# Altium integrated library Motorola Logic Multiplexer.IntLib: 115 symbols (part 1 of 3)
Pins are listed as number, name and electrical type; pins without a type are passive.

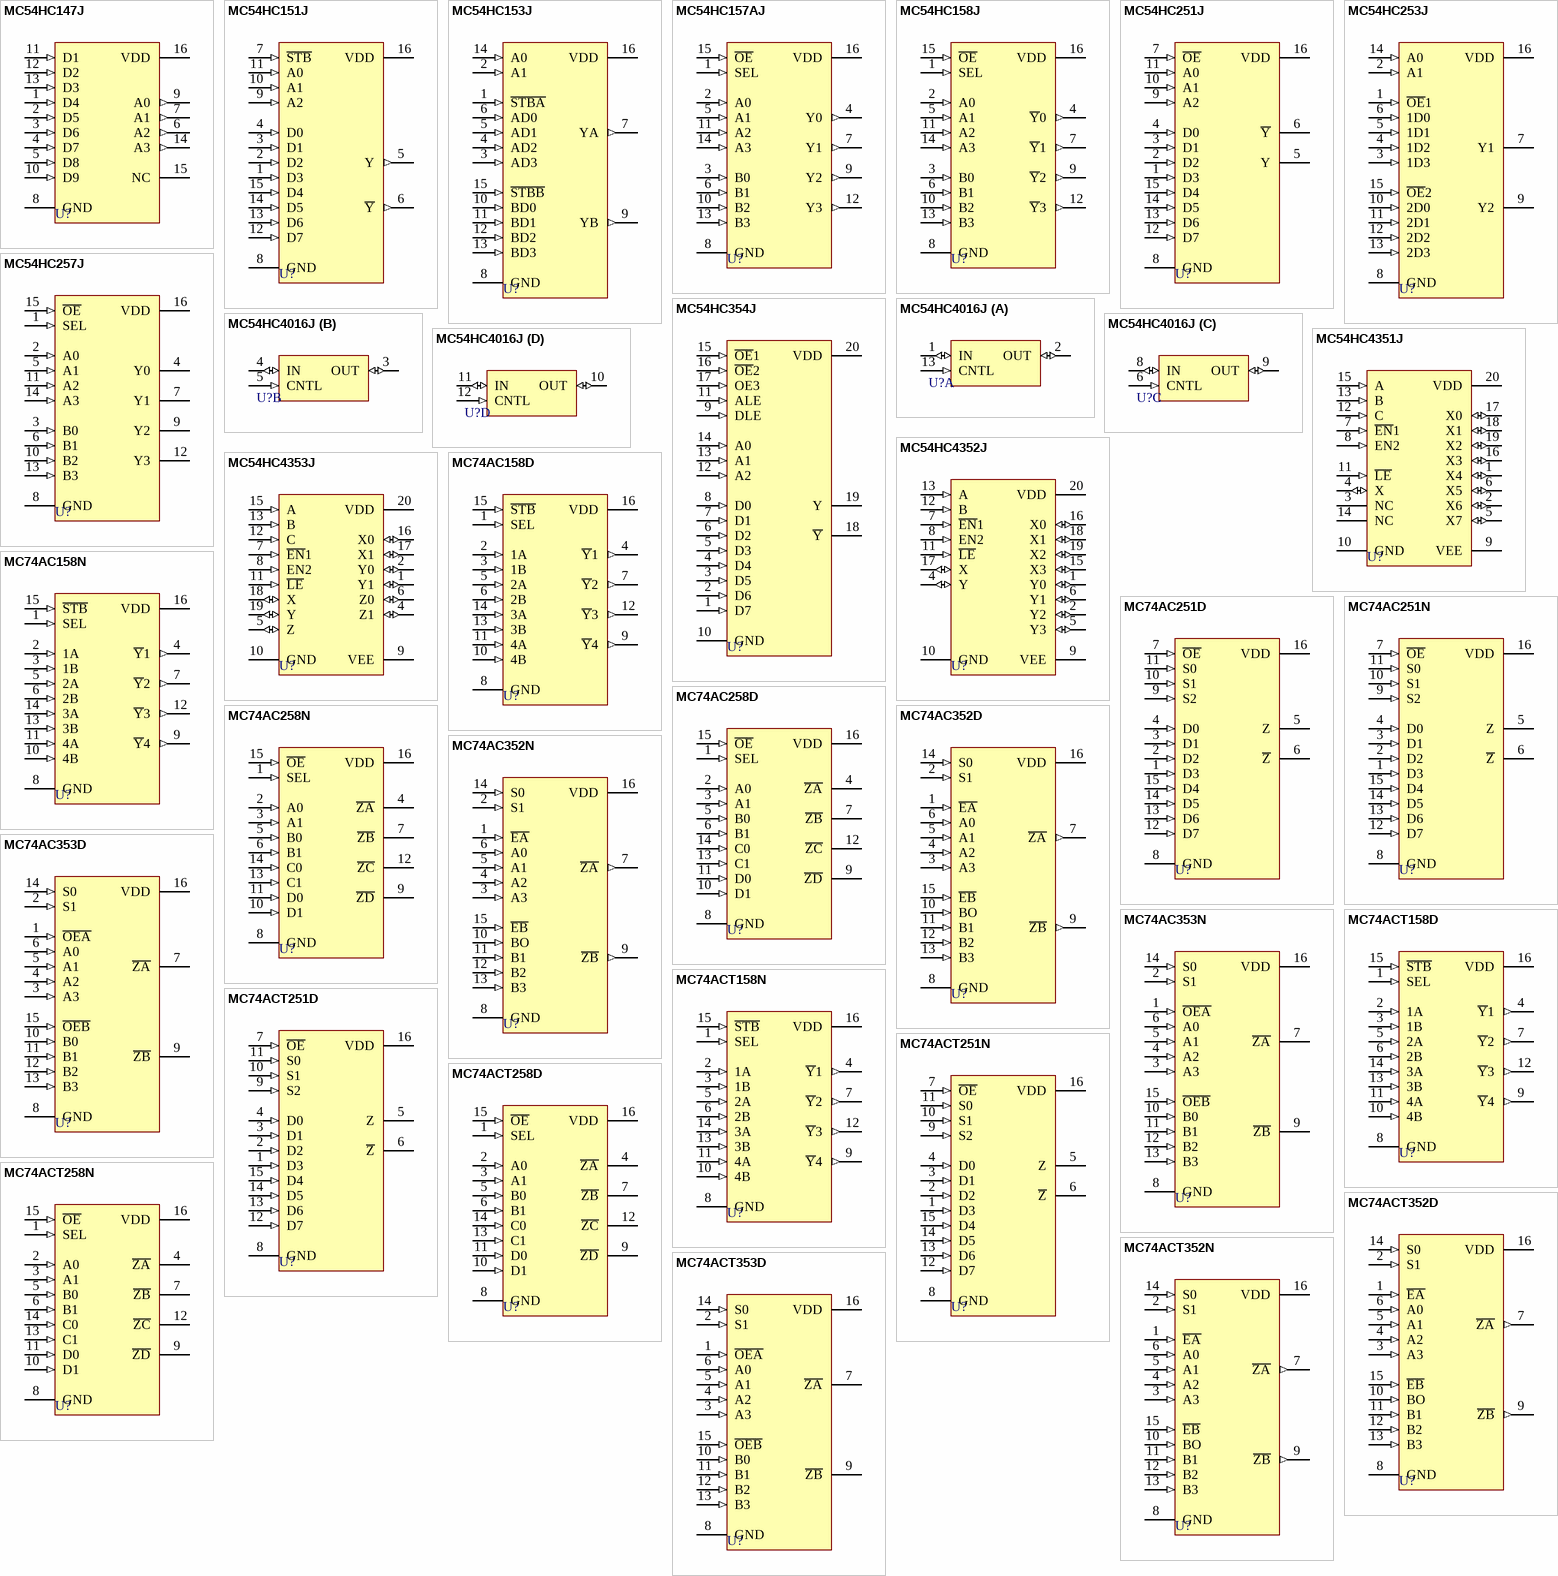
[diagram p0: symbols MC54HC147J to MC74ACT353D]

## MC54HC147J
designator U?
Decimal-to-BCD Encoder; Published: 17-Jul-2002; LatestRevisionDate: 06-Jun-2005; LatestRevisionNote: Stylized 3D Model Added; DatasheetVersion: 1989; PackageReference: 620-09; Publisher: Altium Limited; PackageDescription: DIP; 16 Leads; Row Spacing 7.62 mm; Pitch 2.54 mm; Code_JEDEC: MS-001-BB; ComponentLink1Description: Manufacturer Link; ComponentLink1URL: http://www.onsemi.com/site/products/parametrics/0,4446,419,00.html; ComponentLink2Description: Ibis Model; ComponentLink2URL: http://www.onsemi.com/pub/Collateral/MC54HC147J.IBS
footprint 620-09 (DIP; 16 Leads; Row Spacing 7.62 mm; Pitch 2.54 mm)
3D model 620-09 (DIP; 16 Leads; Row Spacing 7.62 mm; Pitch 2.54 mm)
signal-integrity model MC54HC147J
pins: 1 D4 (in), 2 D5 (in), 3 D6 (in), 4 D7 (in), 5 D8 (in), 6 A2 (out), 7 A1 (out), 8 GND (power), 9 A0 (out), 10 D9 (in), 11 D1 (in), 12 D2 (in), 13 D3 (in), 14 A3 (out), 15 NC, 16 VDD (power)

## MC54HC151J
designator U?
8-Input Data Selector/Multiplexer; Published: 17-Jul-2002; LatestRevisionDate: 06-Jun-2005; LatestRevisionNote: Stylized 3D Model Added; DatasheetVersion: 1989; PackageReference: 620-09; Publisher: Altium Limited; PackageDescription: DIP; 16 Leads; Row Spacing 7.62 mm; Pitch 2.54 mm; Code_JEDEC: MS-001-BB; ComponentLink1Description: Manufacturer Link; ComponentLink1URL: http://www.onsemi.com/site/products/parametrics/0,4446,419,00.html; ComponentLink2Description: Ibis Model; ComponentLink2URL: http://www.onsemi.com/pub/Collateral/MC54HC151J.IBS
footprint 620-09 (DIP; 16 Leads; Row Spacing 7.62 mm; Pitch 2.54 mm)
3D model 620-09 (DIP; 16 Leads; Row Spacing 7.62 mm; Pitch 2.54 mm)
signal-integrity model MC54HC151J
pins: 1 D3 (in), 2 D2 (in), 3 D1 (in), 4 D0 (in), 5 Y (out), 6 ~{Y} (out), 7 ~{STB} (in), 8 GND (power), 9 A2 (in), 10 A1 (in), 11 A0 (in), 12 D7 (in), 13 D6 (in), 14 D5 (in), 15 D4 (in), 16 VDD (power)

## MC54HC153J
designator U?
Dual 4-Input Data Selector/Multiplexer; Published: 17-Jul-2002; LatestRevisionDate: 06-Jun-2005; LatestRevisionNote: Stylized 3D Model Added; DatasheetVersion: 1989; PackageReference: 620-09; Publisher: Altium Limited; PackageDescription: DIP; 16 Leads; Row Spacing 7.62 mm; Pitch 2.54 mm; Code_JEDEC: MS-001-BB; ComponentLink1Description: Manufacturer Link; ComponentLink1URL: http://www.onsemi.com/site/products/parametrics/0,4446,419,00.html; ComponentLink2Description: Ibis Model; ComponentLink2URL: http://www.onsemi.com/pub/Collateral/MC54HC153J.IBS
footprint 620-09 (DIP; 16 Leads; Row Spacing 7.62 mm; Pitch 2.54 mm)
3D model 620-09 (DIP; 16 Leads; Row Spacing 7.62 mm; Pitch 2.54 mm)
signal-integrity model MC54HC153J
pins: 1 ~{STBA} (in), 2 A1 (in), 3 AD3 (in), 4 AD2 (in), 5 AD1 (in), 6 AD0 (in), 7 YA (out), 8 GND (power), 9 YB (out), 10 BD0 (in), 11 BD1 (in), 12 BD2 (in), 13 BD3 (in), 14 A0 (in), 15 ~{STBB} (in), 16 VDD (power)

## MC54HC157AJ
designator U?
Quad 2-Input Data Selector/Multiplexer; Published: 17-Jul-2002; LatestRevisionDate: 06-Jun-2005; LatestRevisionNote: Stylized 3D Model Added; DatasheetVersion: 1989; PackageReference: 620-09; Publisher: Altium Limited; PackageDescription: DIP; 16 Leads; Row Spacing 7.62 mm; Pitch 2.54 mm; Code_JEDEC: MS-001-BB; ComponentLink1Description: Manufacturer Link; ComponentLink1URL: http://www.onsemi.com/site/products/parametrics/0,4446,419,00.html; ComponentLink2Description: Ibis Model; ComponentLink2URL: http://www.onsemi.com/pub/Collateral/MC54HC157AJ.IBS
footprint 620-09 (DIP; 16 Leads; Row Spacing 7.62 mm; Pitch 2.54 mm)
3D model 620-09 (DIP; 16 Leads; Row Spacing 7.62 mm; Pitch 2.54 mm)
signal-integrity model MC54HC157AJ
pins: 1 SEL (in), 2 A0 (in), 3 B0 (in), 4 Y0 (out), 5 A1 (in), 6 B1 (in), 7 Y1 (out), 8 GND (power), 9 Y2 (out), 10 B2 (in), 11 A2 (in), 12 Y3 (out), 13 B3 (in), 14 A3 (in), 15 ~{OE} (in), 16 VDD (power)

## MC54HC158J
designator U?
Quad 2-Input Inverting Data Selector/Multiplexer; Published: 17-Jul-2002; LatestRevisionDate: 06-Jun-2005; LatestRevisionNote: Stylized 3D Model Added; DatasheetVersion: 1989; PackageReference: 620-09; Publisher: Altium Limited; PackageDescription: DIP; 16 Leads; Row Spacing 7.62 mm; Pitch 2.54 mm; Code_JEDEC: MS-001-BB; ComponentLink1Description: Manufacturer Link; ComponentLink1URL: http://www.onsemi.com/site/products/parametrics/0,4446,419,00.html; ComponentLink2Description: Ibis Model; ComponentLink2URL: http://www.onsemi.com/pub/Collateral/MC54HC158J.IBS
footprint 620-09 (DIP; 16 Leads; Row Spacing 7.62 mm; Pitch 2.54 mm)
3D model 620-09 (DIP; 16 Leads; Row Spacing 7.62 mm; Pitch 2.54 mm)
signal-integrity model MC54HC158J
pins: 1 SEL (in), 2 A0 (in), 3 B0 (in), 4 ~{Y}0 (out), 5 A1 (in), 6 B1 (in), 7 ~{Y}1 (out), 8 GND (power), 9 ~{Y}2 (out), 10 B2 (in), 11 A2 (in), 12 ~{Y}3 (out), 13 B3 (in), 14 A3 (in), 15 ~{OE} (in), 16 VDD (power)

## MC54HC251J
designator U?
8-Input Data Selector/Multiplexer with 3-State Outputs; Published: 17-Jul-2002; LatestRevisionDate: 06-Jun-2005; LatestRevisionNote: Stylized 3D Model Added; DatasheetVersion: 1989; PackageReference: 620-09; Publisher: Altium Limited; PackageDescription: DIP; 16 Leads; Row Spacing 7.62 mm; Pitch 2.54 mm; Code_JEDEC: MS-001-BB; ComponentLink1Description: Manufacturer Link; ComponentLink1URL: http://www.onsemi.com/site/products/parametrics/0,4446,419,00.html
footprint 620-09 (DIP; 16 Leads; Row Spacing 7.62 mm; Pitch 2.54 mm)
3D model 620-09 (DIP; 16 Leads; Row Spacing 7.62 mm; Pitch 2.54 mm)
signal-integrity model MC54HC251J
pins: 1 D3 (in), 2 D2 (in), 3 D1 (in), 4 D0 (in), 5 Y (hiz), 6 ~{Y} (hiz), 7 ~{OE} (in), 8 GND (power), 9 A2 (in), 10 A1 (in), 11 A0 (in), 12 D7 (in), 13 D6 (in), 14 D5 (in), 15 D4 (in), 16 VDD (power)

## MC54HC253J
designator U?
Dual 4-Input Data Selector/Multiplexer with 3-State Outputs; Published: 17-Jul-2002; LatestRevisionDate: 06-Jun-2005; LatestRevisionNote: Stylized 3D Model Added; DatasheetVersion: 1989; PackageReference: 620-09; Publisher: Altium Limited; PackageDescription: DIP; 16 Leads; Row Spacing 7.62 mm; Pitch 2.54 mm; Code_JEDEC: MS-001-BB; ComponentLink1Description: Manufacturer Link; ComponentLink1URL: http://www.onsemi.com/site/products/parametrics/0,4446,419,00.html; ComponentLink2Description: Ibis Model; ComponentLink2URL: http://www.onsemi.com/pub/Collateral/MC14519BCL.IBS
footprint 620-09 (DIP; 16 Leads; Row Spacing 7.62 mm; Pitch 2.54 mm)
3D model 620-09 (DIP; 16 Leads; Row Spacing 7.62 mm; Pitch 2.54 mm)
signal-integrity model MC54HC253J
pins: 1 ~{OE}1 (in), 2 A1 (in), 3 1D3 (in), 4 1D2 (in), 5 1D1 (in), 6 1D0 (in), 7 Y1 (hiz), 8 GND (power), 9 Y2 (hiz), 10 2D0 (in), 11 2D1 (in), 12 2D2 (in), 13 2D3 (in), 14 A0 (in), 15 ~{OE}2 (in), 16 VDD (power)

## MC54HC257J
designator U?
Quad 2-Input Data Selector/Multiplexer with 3-State Outputs; Published: 17-Jul-2002; LatestRevisionDate: 06-Jun-2005; LatestRevisionNote: Stylized 3D Model Added; DatasheetVersion: 1989; PackageReference: 620-09; Publisher: Altium Limited; PackageDescription: DIP; 16 Leads; Row Spacing 7.62 mm; Pitch 2.54 mm; Code_JEDEC: MS-001-BB; ComponentLink1Description: Manufacturer Link; ComponentLink1URL: http://www.onsemi.com/site/products/parametrics/0,4446,419,00.html
footprint 620-09 (DIP; 16 Leads; Row Spacing 7.62 mm; Pitch 2.54 mm)
3D model 620-09 (DIP; 16 Leads; Row Spacing 7.62 mm; Pitch 2.54 mm)
signal-integrity model MC54HC257J
pins: 1 SEL (in), 2 A0 (in), 3 B0 (in), 4 Y0 (hiz), 5 A1 (in), 6 B1 (in), 7 Y1 (hiz), 8 GND (power), 9 Y2 (hiz), 10 B2 (in), 11 A2 (in), 12 Y3 (hiz), 13 B3 (in), 14 A3 (in), 15 ~{OE} (in), 16 VDD (power)

## MC54HC354J
designator U?
8-Input Data Selector/Multiplexer with Data/Address Latches and 3-State Outputs; Published: 17-Jul-2002; LatestRevisionDate: 06-Jun-2005; LatestRevisionNote: Stylized 3D Model Added; DatasheetVersion: 1989; PackageReference: 732-03; Publisher: Altium Limited; PackageDescription: DIP; 20 Leads; Row Spacing 7.62 mm; Pitch 2.54 mm; Code_JEDEC: MS-015-AE; ComponentLink1Description: Manufacturer Link; ComponentLink1URL: http://www.onsemi.com/site/products/parametrics/0,4446,419,00.html; ComponentLink2Description: Ibis Model; ComponentLink2URL: http://www.onsemi.com/pub/Collateral/MC54HC354J.IBS
footprint 732-03 (DIP; 20 Leads; Row Spacing 7.62 mm; Pitch 2.54 mm)
3D model 732-03 (DIP; 20 Leads; Row Spacing 7.62 mm; Pitch 2.54 mm)
signal-integrity model MC54HC354J
pins: 1 D7 (in), 2 D6 (in), 3 D5 (in), 4 D4 (in), 5 D3 (in), 6 D2 (in), 7 D1 (in), 8 D0 (in), 9 DLE (in), 10 GND (power), 11 ALE (in), 12 A2 (in), 13 A1 (in), 14 A0 (in), 15 ~{OE}1 (in), 16 ~{OE}2 (in), 17 OE3 (in), 18 ~{Y} (hiz), 19 Y (hiz), 20 VDD (power)

## MC54HC4016J
designator U?
Quad Analog Switch/Multiplexer/Demultiplexer; Published: 17-Jul-2002; LatestRevisionDate: 06-Jun-2005; LatestRevisionNote: Stylized 3D Model Added; DatasheetVersion: 1989; PackageReference: 632-08; Publisher: Altium Limited; PackageDescription: DIP; 14 Leads; Row Spacing 7.62 mm; Pitch 2.54 mm; ComponentLink1Description: Manufacturer Link; ComponentLink1URL: http://www.onsemi.com/site/products/parametrics/0,4446,47,00.html
footprint 632-08 (DIP; 14 Leads; Row Spacing 7.62 mm; Pitch 2.54 mm)
3D model 632-08 (DIP; 14 Leads; Row Spacing 7.62 mm; Pitch 2.54 mm)
signal-integrity model MC54HC4016J
pins on every part: 7 GND (power) hidden to GND, 14 VDD (power) hidden to VDD
part A pins: 1 IN (io), 2 OUT (io), 13 CNTL (in)
part B pins: 3 OUT (io), 4 IN (io), 5 CNTL (in)
part C pins: 6 CNTL (in), 8 IN (io), 9 OUT (io)
part D pins: 10 OUT (io), 11 IN (io), 12 CNTL (in)

## MC54HC4351J
designator U?
8-Channel Analog Multiplexer/Demultiplexer with Address Latch; Published: 17-Jul-2002; LatestRevisionDate: 06-Jun-2005; LatestRevisionNote: Stylized 3D Model Added; DatasheetVersion: 1989; PackageReference: 732-03; Publisher: Altium Limited; PackageDescription: DIP; 20 Leads; Row Spacing 7.62 mm; Pitch 2.54 mm; Code_JEDEC: MS-015-AE; ComponentLink1Description: Manufacturer Link; ComponentLink1URL: http://www.onsemi.com/site/products/parametrics/0,4446,47,00.html
footprint 732-03 (DIP; 20 Leads; Row Spacing 7.62 mm; Pitch 2.54 mm)
3D model 732-03 (DIP; 20 Leads; Row Spacing 7.62 mm; Pitch 2.54 mm)
signal-integrity model MC54HC4351J
pins: 1 X4 (io), 2 X6 (io), 3 NC, 4 X (io), 5 X7 (io), 6 X5 (io), 7 ~{EN}1 (in), 8 EN2 (in), 9 VEE (power), 10 GND (power), 11 ~{LE} (in), 12 C (in), 13 B (in), 14 NC, 15 A (in), 16 X3 (io), 17 X0 (io), 18 X1 (io), 19 X2 (io), 20 VDD (power)

## MC54HC4352J
designator U?
Dual 4-Channel Analog Multiplexer/Demultiplexer with Address Latch; Published: 17-Jul-2002; LatestRevisionDate: 06-Jun-2005; LatestRevisionNote: Stylized 3D Model Added; DatasheetVersion: 1989; PackageReference: 732-03; Publisher: Altium Limited; PackageDescription: DIP; 20 Leads; Row Spacing 7.62 mm; Pitch 2.54 mm; Code_JEDEC: MS-015-AE; ComponentLink1Description: Manufacturer Link; ComponentLink1URL: http://www.onsemi.com/site/products/parametrics/0,4446,47,00.html
footprint 732-03 (DIP; 20 Leads; Row Spacing 7.62 mm; Pitch 2.54 mm)
3D model 732-03 (DIP; 20 Leads; Row Spacing 7.62 mm; Pitch 2.54 mm)
signal-integrity model MC54HC4352J
pins: 1 Y0 (io), 2 Y2 (io), 4 Y (io), 5 Y3 (io), 6 Y1 (io), 7 ~{EN}1 (in), 8 EN2 (in), 9 VEE (power), 10 GND (power), 11 ~{LE} (in), 12 B (in), 13 A (in), 15 X3 (io), 16 X0 (io), 17 X (io), 18 X1 (io), 19 X2 (io), 20 VDD (power)

## MC54HC4353J
designator U?
Triple 2-Channel Analog Multiplexer/Demultiplexer with Address Latch; Published: 17-Jul-2002; LatestRevisionDate: 06-Jun-2005; LatestRevisionNote: Stylized 3D Model Added; DatasheetVersion: 1989; PackageReference: 732-03; Publisher: Altium Limited; PackageDescription: DIP; 20 Leads; Row Spacing 7.62 mm; Pitch 2.54 mm; Code_JEDEC: MS-015-AE; ComponentLink1Description: Manufacturer Link; ComponentLink1URL: http://www.onsemi.com/site/products/parametrics/0,4446,47,00.html
footprint 732-03 (DIP; 20 Leads; Row Spacing 7.62 mm; Pitch 2.54 mm)
3D model 732-03 (DIP; 20 Leads; Row Spacing 7.62 mm; Pitch 2.54 mm)
signal-integrity model MC54HC4353J
pins: 1 Y1 (io), 2 Y0 (io), 4 Z1 (io), 5 Z (io), 6 Z0 (io), 7 ~{EN}1 (in), 8 EN2 (in), 9 VEE (power), 10 GND (power), 11 ~{LE} (in), 12 C (in), 13 B (in), 15 A (in), 16 X0 (io), 17 X1 (io), 18 X (io), 19 Y (io), 20 VDD (power)

## MC74AC158D
designator U?
Quad 2-Input Multiplexer; Published: 17-Jul-2002; LatestRevisionDate: 13-Apr-2006; LatestRevisionNote: IPC-7351 Footprint Added.; DatasheetVersion: 1990; PackageVersion: 1991; PackageReference: 751B-03; Publisher: Altium Limited; PackageDescription: 16-Pin Small Outline Integrated Circuit 1.27 mm Pitch; Code_JEDEC: MS-012-AC; Code_IPC: SOIC127P600-16; ComponentLink1Description: Manufacturer Link; ComponentLink1URL: http://www.onsemi.com/site/products/parametrics/0,4446,419,00.html; ComponentLink2Description: Ibis Model; ComponentLink2URL: http://www.onsemi.com/pub/Collateral/MC74AC158D.IBS
footprint 751B-03_N (SOIC, 16-Leads, Body 9.9x3.9mm, Pitch 1.27mm, IPC Medium Density)
footprint 751B-03_L (SOIC, 16-Leads, Body 9.9x3.9mm, Pitch 1.27mm, IPC High Density)
footprint 751B-03_M (SOIC, 16-Leads, Body 9.9x3.9mm, Pitch 1.27mm, IPC Low Density)
3D model 751B-05 (16-Pin Small Outline Integrated Circuit 1.27 mm Pitch)
signal-integrity model MC74AC158D
pins: 1 SEL (in), 2 1A (in), 3 1B (in), 4 ~{Y}1 (out), 5 2A (in), 6 2B (in), 7 ~{Y}2 (out), 8 GND (power), 9 ~{Y}4 (out), 10 4B (in), 11 4A (in), 12 ~{Y}3 (out), 13 3B (in), 14 3A (in), 15 ~{STB} (in), 16 VDD (power)

## MC74AC158N
designator U?
Quad 2-Input Multiplexer; Published: 17-Jul-2002; LatestRevisionDate: 06-Jun-2005; LatestRevisionNote: Stylized 3D Model Added; DatasheetVersion: 1990; PackageReference: 648-08; Publisher: Altium Limited; PackageDescription: DIP; 16 Leads; Row Spacing 7.62 mm; Pitch 2.54 mm; Code_JEDEC: MS-001-BB; ComponentLink1Description: Manufacturer Link; ComponentLink1URL: http://www.onsemi.com/site/products/parametrics/0,4446,419,00.html; ComponentLink2Description: Ibis Model; ComponentLink2URL: http://www.onsemi.com/pub/Collateral/MC74AC158D.IBS
footprint 648-08 (DIP; 16 Leads; Row Spacing 7.62 mm; Pitch 2.54 mm)
3D model 620-09 (DIP; 16 Leads; Row Spacing 7.62 mm; Pitch 2.54 mm)
signal-integrity model MC74AC158N
pins: 1 SEL (in), 2 1A (in), 3 1B (in), 4 ~{Y}1 (out), 5 2A (in), 6 2B (in), 7 ~{Y}2 (out), 8 GND (power), 9 ~{Y}4 (out), 10 4B (in), 11 4A (in), 12 ~{Y}3 (out), 13 3B (in), 14 3A (in), 15 ~{STB} (in), 16 VDD (power)

## MC74AC251D
designator U?
8-Input Multiplexer with 3-State Outputs; Published: 17-Jul-2002; LatestRevisionDate: 13-Apr-2006; LatestRevisionNote: IPC-7351 Footprint Added.; DatasheetVersion: 1990; PackageVersion: 1991; PackageReference: 751B-03; Publisher: Altium Limited; PackageDescription: 16-Pin Small Outline Integrated Circuit 1.27 mm Pitch; Code_JEDEC: MS-012-AC; Code_IPC: SOIC127P600-16; ComponentLink1Description: Manufacturer Link; ComponentLink1URL: http://www.onsemi.com/site/products/parametrics/0,4446,419,00.html
footprint 751B-03_N (SOIC, 16-Leads, Body 9.9x3.9mm, Pitch 1.27mm, IPC Medium Density)
footprint 751B-03_L (SOIC, 16-Leads, Body 9.9x3.9mm, Pitch 1.27mm, IPC High Density)
footprint 751B-03_M (SOIC, 16-Leads, Body 9.9x3.9mm, Pitch 1.27mm, IPC Low Density)
3D model 751B-05 (16-Pin Small Outline Integrated Circuit 1.27 mm Pitch)
signal-integrity model MC74AC251D
pins: 1 D3 (in), 2 D2 (in), 3 D1 (in), 4 D0 (in), 5 Z (hiz), 6 ~{Z} (hiz), 7 ~{OE} (in), 8 GND (power), 9 S2 (in), 10 S1 (in), 11 S0 (in), 12 D7 (in), 13 D6 (in), 14 D5 (in), 15 D4 (in), 16 VDD (power)

## MC74AC251N
designator U?
8-Input Multiplexer with 3-State Outputs; Published: 17-Jul-2002; LatestRevisionDate: 06-Jun-2005; LatestRevisionNote: Stylized 3D Model Added; DatasheetVersion: 1990; PackageReference: 648-08; Publisher: Altium Limited; PackageDescription: DIP; 16 Leads; Row Spacing 7.62 mm; Pitch 2.54 mm; Code_JEDEC: MS-001-BB; ComponentLink1Description: Manufacturer Link; ComponentLink1URL: http://www.onsemi.com/site/products/parametrics/0,4446,419,00.html
footprint 648-08 (DIP; 16 Leads; Row Spacing 7.62 mm; Pitch 2.54 mm)
3D model 620-09 (DIP; 16 Leads; Row Spacing 7.62 mm; Pitch 2.54 mm)
signal-integrity model MC74AC251N
pins: 1 D3 (in), 2 D2 (in), 3 D1 (in), 4 D0 (in), 5 Z (hiz), 6 ~{Z} (hiz), 7 ~{OE} (in), 8 GND (power), 9 S2 (in), 10 S1 (in), 11 S0 (in), 12 D7 (in), 13 D6 (in), 14 D5 (in), 15 D4 (in), 16 VDD (power)

## MC74AC258D
designator U?
Quad 2-Input Multiplexer with 3-State Outputs; Published: 17-Jul-2002; LatestRevisionDate: 13-Apr-2006; LatestRevisionNote: IPC-7351 Footprint Added.; DatasheetVersion: 1990; PackageVersion: 1991; PackageReference: 751B-03; Publisher: Altium Limited; PackageDescription: 16-Pin Small Outline Integrated Circuit 1.27 mm Pitch; Code_JEDEC: MS-012-AC; Code_IPC: SOIC127P600-16; ComponentLink1Description: Manufacturer Link; ComponentLink1URL: http://www.onsemi.com/site/products/parametrics/0,4446,419,00.html; ComponentLink2Description: Ibis Model; ComponentLink2URL: http://www.onsemi.com/pub/Collateral/MC74ACT258D.IBS
footprint 751B-03_N (SOIC, 16-Leads, Body 9.9x3.9mm, Pitch 1.27mm, IPC Medium Density)
footprint 751B-03_L (SOIC, 16-Leads, Body 9.9x3.9mm, Pitch 1.27mm, IPC High Density)
footprint 751B-03_M (SOIC, 16-Leads, Body 9.9x3.9mm, Pitch 1.27mm, IPC Low Density)
3D model 751B-05 (16-Pin Small Outline Integrated Circuit 1.27 mm Pitch)
signal-integrity model MC74AC258D
pins: 1 SEL (in), 2 A0 (in), 3 A1 (in), 4 ~{ZA} (hiz), 5 B0 (in), 6 B1 (in), 7 ~{ZB} (hiz), 8 GND (power), 9 ~{ZD} (hiz), 10 D1 (in), 11 D0 (in), 12 ~{ZC} (hiz), 13 C1 (in), 14 C0 (in), 15 ~{OE} (in), 16 VDD (power)

## MC74AC258N
designator U?
Quad 2-Input Multiplexer with 3-State Outputs; Published: 17-Jul-2002; LatestRevisionDate: 06-Jun-2005; LatestRevisionNote: Stylized 3D Model Added; DatasheetVersion: 1990; PackageReference: 648-08; Publisher: Altium Limited; PackageDescription: DIP; 16 Leads; Row Spacing 7.62 mm; Pitch 2.54 mm; Code_JEDEC: MS-001-BB; ComponentLink1Description: Manufacturer Link; ComponentLink1URL: http://www.onsemi.com/site/products/parametrics/0,4446,419,00.html; ComponentLink2Description: Ibis Model; ComponentLink2URL: http://www.onsemi.com/pub/Collateral/MC74ACT258D.IBS
footprint 648-08 (DIP; 16 Leads; Row Spacing 7.62 mm; Pitch 2.54 mm)
3D model 620-09 (DIP; 16 Leads; Row Spacing 7.62 mm; Pitch 2.54 mm)
signal-integrity model MC74AC258N
pins: 1 SEL (in), 2 A0 (in), 3 A1 (in), 4 ~{ZA} (hiz), 5 B0 (in), 6 B1 (in), 7 ~{ZB} (hiz), 8 GND (power), 9 ~{ZD} (hiz), 10 D1 (in), 11 D0 (in), 12 ~{ZC} (hiz), 13 C1 (in), 14 C0 (in), 15 ~{OE} (in), 16 VDD (power)

## MC74AC352D
designator U?
Dual 4-Input Multiplexer with 3-State Outputs; Published: 17-Jul-2002; LatestRevisionDate: 13-Apr-2006; LatestRevisionNote: IPC-7351 Footprint Added.; DatasheetVersion: 1990; PackageVersion: 1991; PackageReference: 751B-03; Publisher: Altium Limited; PackageDescription: 16-Pin Small Outline Integrated Circuit 1.27 mm Pitch; Code_JEDEC: MS-012-AC; Code_IPC: SOIC127P600-16; ComponentLink1Description: Manufacturer Link; ComponentLink1URL: http://www.onsemi.com/site/products/parametrics/0,4446,419,00.html; ComponentLink2Description: Ibis Model; ComponentLink2URL: http://www.onsemi.com/pub/Collateral/MC74ACT352D.IBS
footprint 751B-03_N (SOIC, 16-Leads, Body 9.9x3.9mm, Pitch 1.27mm, IPC Medium Density)
footprint 751B-03_L (SOIC, 16-Leads, Body 9.9x3.9mm, Pitch 1.27mm, IPC High Density)
footprint 751B-03_M (SOIC, 16-Leads, Body 9.9x3.9mm, Pitch 1.27mm, IPC Low Density)
3D model 751B-05 (16-Pin Small Outline Integrated Circuit 1.27 mm Pitch)
signal-integrity model MC74AC352D
pins: 1 ~{EA} (in), 2 S1 (in), 3 A3 (in), 4 A2 (in), 5 A1 (in), 6 A0 (in), 7 ~{ZA} (out), 8 GND (power), 9 ~{ZB} (out), 10 BO (in), 11 B1 (in), 12 B2 (in), 13 B3 (in), 14 S0 (in), 15 ~{EB} (in), 16 VDD (power)

## MC74AC352N
designator U?
Dual 4-Input Multiplexer; Published: 17-Jul-2002; LatestRevisionDate: 06-Jun-2005; LatestRevisionNote: Stylized 3D Model Added; DatasheetVersion: 1990; PackageReference: 648-08; Publisher: Altium Limited; PackageDescription: DIP; 16 Leads; Row Spacing 7.62 mm; Pitch 2.54 mm; Code_JEDEC: MS-001-BB; ComponentLink1Description: Manufacturer Link; ComponentLink1URL: http://www.onsemi.com/site/products/parametrics/0,4446,419,00.html; ComponentLink2Description: Ibis Model; ComponentLink2URL: http://www.onsemi.com/pub/Collateral/MC74ACT352D.IBS
footprint 648-08 (DIP; 16 Leads; Row Spacing 7.62 mm; Pitch 2.54 mm)
3D model 620-09 (DIP; 16 Leads; Row Spacing 7.62 mm; Pitch 2.54 mm)
signal-integrity model MC74AC352N
pins: 1 ~{EA} (in), 2 S1 (in), 3 A3 (in), 4 A2 (in), 5 A1 (in), 6 A0 (in), 7 ~{ZA} (out), 8 GND (power), 9 ~{ZB} (out), 10 BO (in), 11 B1 (in), 12 B2 (in), 13 B3 (in), 14 S0 (in), 15 ~{EB} (in), 16 VDD (power)

## MC74AC353D
designator U?
Dual 4-Input Multiplexer with 3-State Outputs; Published: 17-Jul-2002; LatestRevisionDate: 13-Apr-2006; LatestRevisionNote: IPC-7351 Footprint Added.; DatasheetVersion: 1990; PackageVersion: 1991; PackageReference: 751B-03; Publisher: Altium Limited; PackageDescription: 16-Pin Small Outline Integrated Circuit 1.27 mm Pitch; Code_JEDEC: MS-012-AC; Code_IPC: SOIC127P600-16; ComponentLink1Description: Manufacturer Link; ComponentLink1URL: http://www.onsemi.com/site/products/parametrics/0,4446,419,00.html; ComponentLink2Description: Ibis Model; ComponentLink2URL: http://www.onsemi.com/pub/Collateral/MC74ACT353D.IBS
footprint 751B-03_N (SOIC, 16-Leads, Body 9.9x3.9mm, Pitch 1.27mm, IPC Medium Density)
footprint 751B-03_L (SOIC, 16-Leads, Body 9.9x3.9mm, Pitch 1.27mm, IPC High Density)
footprint 751B-03_M (SOIC, 16-Leads, Body 9.9x3.9mm, Pitch 1.27mm, IPC Low Density)
3D model 751B-05 (16-Pin Small Outline Integrated Circuit 1.27 mm Pitch)
signal-integrity model MC74AC353D
pins: 1 ~{OEA} (in), 2 S1 (in), 3 A3 (in), 4 A2 (in), 5 A1 (in), 6 A0 (in), 7 ~{ZA} (hiz), 8 GND (power), 9 ~{ZB} (hiz), 10 B0 (in), 11 B1 (in), 12 B2 (in), 13 B3 (in), 14 S0 (in), 15 ~{OEB} (in), 16 VDD (power)

## MC74AC353N
designator U?
Dual 4-Input Multiplexer with 3-State Outputs; Published: 17-Jul-2002; LatestRevisionDate: 06-Jun-2005; LatestRevisionNote: Stylized 3D Model Added; DatasheetVersion: 1990; PackageReference: 648-08; Publisher: Altium Limited; PackageDescription: DIP; 16 Leads; Row Spacing 7.62 mm; Pitch 2.54 mm; Code_JEDEC: MS-001-BB; ComponentLink1Description: Manufacturer Link; ComponentLink1URL: http://www.onsemi.com/site/products/parametrics/0,4446,419,00.html; ComponentLink2Description: Ibis Model; ComponentLink2URL: http://www.onsemi.com/pub/Collateral/MC74ACT353D.IBS
footprint 648-08 (DIP; 16 Leads; Row Spacing 7.62 mm; Pitch 2.54 mm)
3D model 620-09 (DIP; 16 Leads; Row Spacing 7.62 mm; Pitch 2.54 mm)
signal-integrity model MC74AC353N
pins: 1 ~{OEA} (in), 2 S1 (in), 3 A3 (in), 4 A2 (in), 5 A1 (in), 6 A0 (in), 7 ~{ZA} (hiz), 8 GND (power), 9 ~{ZB} (hiz), 10 B0 (in), 11 B1 (in), 12 B2 (in), 13 B3 (in), 14 S0 (in), 15 ~{OEB} (in), 16 VDD (power)

## MC74ACT158D
designator U?
Quad 2-Input Multiplexer; Published: 17-Jul-2002; LatestRevisionDate: 13-Apr-2006; LatestRevisionNote: IPC-7351 Footprint Added.; DatasheetVersion: 1990; PackageVersion: 1991; PackageReference: 751B-03; Publisher: Altium Limited; PackageDescription: 16-Pin Small Outline Integrated Circuit 1.27 mm Pitch; Code_JEDEC: MS-012-AC; Code_IPC: SOIC127P600-16; ComponentLink1Description: Manufacturer Link; ComponentLink1URL: http://www.onsemi.com/site/products/parametrics/0,4446,419,00.html; ComponentLink2Description: Ibis Model; ComponentLink2URL: http://www.onsemi.com/pub/Collateral/MC74AC158D.IBS
footprint 751B-03_N (SOIC, 16-Leads, Body 9.9x3.9mm, Pitch 1.27mm, IPC Medium Density)
footprint 751B-03_L (SOIC, 16-Leads, Body 9.9x3.9mm, Pitch 1.27mm, IPC High Density)
footprint 751B-03_M (SOIC, 16-Leads, Body 9.9x3.9mm, Pitch 1.27mm, IPC Low Density)
3D model 751B-05 (16-Pin Small Outline Integrated Circuit 1.27 mm Pitch)
signal-integrity model MC74ACT158D
pins: 1 SEL (in), 2 1A (in), 3 1B (in), 4 ~{Y}1 (out), 5 2A (in), 6 2B (in), 7 ~{Y}2 (out), 8 GND (power), 9 ~{Y}4 (out), 10 4B (in), 11 4A (in), 12 ~{Y}3 (out), 13 3B (in), 14 3A (in), 15 ~{STB} (in), 16 VDD (power)

## MC74ACT158N
designator U?
Quad 2-Input Multiplexer; Published: 17-Jul-2002; LatestRevisionDate: 06-Jun-2005; LatestRevisionNote: Stylized 3D Model Added; DatasheetVersion: 1990; PackageReference: 648-08; Publisher: Altium Limited; PackageDescription: DIP; 16 Leads; Row Spacing 7.62 mm; Pitch 2.54 mm; Code_JEDEC: MS-001-BB; ComponentLink1Description: Manufacturer Link; ComponentLink1URL: http://www.onsemi.com/site/products/parametrics/0,4446,419,00.html; ComponentLink2Description: Ibis Model; ComponentLink2URL: http://www.onsemi.com/pub/Collateral/MC74AC158D.IBS
footprint 648-08 (DIP; 16 Leads; Row Spacing 7.62 mm; Pitch 2.54 mm)
3D model 620-09 (DIP; 16 Leads; Row Spacing 7.62 mm; Pitch 2.54 mm)
signal-integrity model MC74ACT158N
pins: 1 SEL (in), 2 1A (in), 3 1B (in), 4 ~{Y}1 (out), 5 2A (in), 6 2B (in), 7 ~{Y}2 (out), 8 GND (power), 9 ~{Y}4 (out), 10 4B (in), 11 4A (in), 12 ~{Y}3 (out), 13 3B (in), 14 3A (in), 15 ~{STB} (in), 16 VDD (power)

## MC74ACT251D
designator U?
8-Input Multiplexer with 3-State Outputs; Published: 17-Jul-2002; LatestRevisionDate: 13-Apr-2006; LatestRevisionNote: IPC-7351 Footprint Added.; DatasheetVersion: 1990; PackageVersion: 1991; PackageReference: 751B-03; Publisher: Altium Limited; PackageDescription: 16-Pin Small Outline Integrated Circuit 1.27 mm Pitch; Code_JEDEC: MS-012-AC; Code_IPC: SOIC127P600-16; ComponentLink1Description: Manufacturer Link; ComponentLink1URL: http://www.onsemi.com/site/products/parametrics/0,4446,419,00.html
footprint 751B-03_N (SOIC, 16-Leads, Body 9.9x3.9mm, Pitch 1.27mm, IPC Medium Density)
footprint 751B-03_L (SOIC, 16-Leads, Body 9.9x3.9mm, Pitch 1.27mm, IPC High Density)
footprint 751B-03_M (SOIC, 16-Leads, Body 9.9x3.9mm, Pitch 1.27mm, IPC Low Density)
3D model 751B-05 (16-Pin Small Outline Integrated Circuit 1.27 mm Pitch)
signal-integrity model MC74ACT251D
pins: 1 D3 (in), 2 D2 (in), 3 D1 (in), 4 D0 (in), 5 Z (hiz), 6 ~{Z} (hiz), 7 ~{OE} (in), 8 GND (power), 9 S2 (in), 10 S1 (in), 11 S0 (in), 12 D7 (in), 13 D6 (in), 14 D5 (in), 15 D4 (in), 16 VDD (power)

## MC74ACT251N
designator U?
8-Input Multiplexer with 3-State Outputs; Published: 17-Jul-2002; LatestRevisionDate: 06-Jun-2005; LatestRevisionNote: Stylized 3D Model Added; DatasheetVersion: 1990; PackageReference: 648-08; Publisher: Altium Limited; PackageDescription: DIP; 16 Leads; Row Spacing 7.62 mm; Pitch 2.54 mm; Code_JEDEC: MS-001-BB; ComponentLink1Description: Manufacturer Link; ComponentLink1URL: http://www.onsemi.com/site/products/parametrics/0,4446,419,00.html
footprint 648-08 (DIP; 16 Leads; Row Spacing 7.62 mm; Pitch 2.54 mm)
3D model 620-09 (DIP; 16 Leads; Row Spacing 7.62 mm; Pitch 2.54 mm)
signal-integrity model MC74ACT251N
pins: 1 D3 (in), 2 D2 (in), 3 D1 (in), 4 D0 (in), 5 Z (hiz), 6 ~{Z} (hiz), 7 ~{OE} (in), 8 GND (power), 9 S2 (in), 10 S1 (in), 11 S0 (in), 12 D7 (in), 13 D6 (in), 14 D5 (in), 15 D4 (in), 16 VDD (power)

## MC74ACT258D
designator U?
Quad 2-Input Multiplexer with 3-State Outputs; Published: 17-Jul-2002; LatestRevisionDate: 13-Apr-2006; LatestRevisionNote: IPC-7351 Footprint Added.; DatasheetVersion: 1990; PackageVersion: 1991; PackageReference: 751B-03; Publisher: Altium Limited; PackageDescription: 16-Pin Small Outline Integrated Circuit 1.27 mm Pitch; Code_JEDEC: MS-012-AC; Code_IPC: SOIC127P600-16; ComponentLink1Description: Manufacturer Link; ComponentLink1URL: http://www.onsemi.com/site/products/parametrics/0,4446,419,00.html; ComponentLink2Description: Ibis Model; ComponentLink2URL: http://www.onsemi.com/pub/Collateral/MC74ACT258D.IBS
footprint 751B-03_N (SOIC, 16-Leads, Body 9.9x3.9mm, Pitch 1.27mm, IPC Medium Density)
footprint 751B-03_L (SOIC, 16-Leads, Body 9.9x3.9mm, Pitch 1.27mm, IPC High Density)
footprint 751B-03_M (SOIC, 16-Leads, Body 9.9x3.9mm, Pitch 1.27mm, IPC Low Density)
3D model 751B-05 (16-Pin Small Outline Integrated Circuit 1.27 mm Pitch)
signal-integrity model MC74ACT258D
pins: 1 SEL (in), 2 A0 (in), 3 A1 (in), 4 ~{ZA} (hiz), 5 B0 (in), 6 B1 (in), 7 ~{ZB} (hiz), 8 GND (power), 9 ~{ZD} (hiz), 10 D1 (in), 11 D0 (in), 12 ~{ZC} (hiz), 13 C1 (in), 14 C0 (in), 15 ~{OE} (in), 16 VDD (power)

## MC74ACT258N
designator U?
Quad 2-Input Multiplexer with 3-State Outputs; Published: 17-Jul-2002; LatestRevisionDate: 06-Jun-2005; LatestRevisionNote: Stylized 3D Model Added; DatasheetVersion: 1990; PackageReference: 648-08; Publisher: Altium Limited; PackageDescription: DIP; 16 Leads; Row Spacing 7.62 mm; Pitch 2.54 mm; Code_JEDEC: MS-001-BB; ComponentLink1Description: Manufacturer Link; ComponentLink1URL: http://www.onsemi.com/site/products/parametrics/0,4446,419,00.html; ComponentLink2Description: Ibis Model; ComponentLink2URL: http://www.onsemi.com/pub/Collateral/MC74ACT258D.IBS
footprint 648-08 (DIP; 16 Leads; Row Spacing 7.62 mm; Pitch 2.54 mm)
3D model 620-09 (DIP; 16 Leads; Row Spacing 7.62 mm; Pitch 2.54 mm)
signal-integrity model MC74ACT258N
pins: 1 SEL (in), 2 A0 (in), 3 A1 (in), 4 ~{ZA} (hiz), 5 B0 (in), 6 B1 (in), 7 ~{ZB} (hiz), 8 GND (power), 9 ~{ZD} (hiz), 10 D1 (in), 11 D0 (in), 12 ~{ZC} (hiz), 13 C1 (in), 14 C0 (in), 15 ~{OE} (in), 16 VDD (power)

## MC74ACT352D
designator U?
Dual 4-Input Multiplexer; Published: 17-Jul-2002; LatestRevisionDate: 13-Apr-2006; LatestRevisionNote: IPC-7351 Footprint Added.; DatasheetVersion: 1990; PackageVersion: 1991; PackageReference: 751B-03; Publisher: Altium Limited; PackageDescription: 16-Pin Small Outline Integrated Circuit 1.27 mm Pitch; Code_JEDEC: MS-012-AC; Code_IPC: SOIC127P600-16; ComponentLink1Description: Manufacturer Link; ComponentLink1URL: http://www.onsemi.com/site/products/parametrics/0,4446,419,00.html; ComponentLink2Description: Ibis Model; ComponentLink2URL: http://www.onsemi.com/pub/Collateral/MC74ACT352D.IBS
footprint 751B-03_N (SOIC, 16-Leads, Body 9.9x3.9mm, Pitch 1.27mm, IPC Medium Density)
footprint 751B-03_L (SOIC, 16-Leads, Body 9.9x3.9mm, Pitch 1.27mm, IPC High Density)
footprint 751B-03_M (SOIC, 16-Leads, Body 9.9x3.9mm, Pitch 1.27mm, IPC Low Density)
3D model 751B-05 (16-Pin Small Outline Integrated Circuit 1.27 mm Pitch)
signal-integrity model MC74ACT352D
pins: 1 ~{EA} (in), 2 S1 (in), 3 A3 (in), 4 A2 (in), 5 A1 (in), 6 A0 (in), 7 ~{ZA} (out), 8 GND (power), 9 ~{ZB} (out), 10 BO (in), 11 B1 (in), 12 B2 (in), 13 B3 (in), 14 S0 (in), 15 ~{EB} (in), 16 VDD (power)

## MC74ACT352N
designator U?
Dual 4-Input Multiplexer; Published: 17-Jul-2002; LatestRevisionDate: 06-Jun-2005; LatestRevisionNote: Stylized 3D Model Added; DatasheetVersion: 1990; PackageReference: 648-08; Publisher: Altium Limited; PackageDescription: DIP; 16 Leads; Row Spacing 7.62 mm; Pitch 2.54 mm; Code_JEDEC: MS-001-BB; ComponentLink1Description: Manufacturer Link; ComponentLink1URL: http://www.onsemi.com/site/products/parametrics/0,4446,419,00.html; ComponentLink2Description: Ibis Model; ComponentLink2URL: http://www.onsemi.com/pub/Collateral/MC74ACT352D.IBS
footprint 648-08 (DIP; 16 Leads; Row Spacing 7.62 mm; Pitch 2.54 mm)
3D model 620-09 (DIP; 16 Leads; Row Spacing 7.62 mm; Pitch 2.54 mm)
signal-integrity model MC74ACT352N
pins: 1 ~{EA} (in), 2 S1 (in), 3 A3 (in), 4 A2 (in), 5 A1 (in), 6 A0 (in), 7 ~{ZA} (out), 8 GND (power), 9 ~{ZB} (out), 10 BO (in), 11 B1 (in), 12 B2 (in), 13 B3 (in), 14 S0 (in), 15 ~{EB} (in), 16 VDD (power)

## MC74ACT353D
designator U?
Dual 4-Input Multiplexer with 3-State Outputs; Published: 17-Jul-2002; LatestRevisionDate: 13-Apr-2006; LatestRevisionNote: IPC-7351 Footprint Added.; DatasheetVersion: 1990; PackageVersion: 1991; PackageReference: 751B-03; Publisher: Altium Limited; PackageDescription: 16-Pin Small Outline Integrated Circuit 1.27 mm Pitch; Code_JEDEC: MS-012-AC; Code_IPC: SOIC127P600-16; ComponentLink1Description: Manufacturer Link; ComponentLink1URL: http://www.onsemi.com/site/products/parametrics/0,4446,419,00.html; ComponentLink2Description: Ibis Model; ComponentLink2URL: http://www.onsemi.com/pub/Collateral/MC74ACT353D.IBS
footprint 751B-03_N (SOIC, 16-Leads, Body 9.9x3.9mm, Pitch 1.27mm, IPC Medium Density)
footprint 751B-03_L (SOIC, 16-Leads, Body 9.9x3.9mm, Pitch 1.27mm, IPC High Density)
footprint 751B-03_M (SOIC, 16-Leads, Body 9.9x3.9mm, Pitch 1.27mm, IPC Low Density)
3D model 751B-05 (16-Pin Small Outline Integrated Circuit 1.27 mm Pitch)
signal-integrity model MC74ACT353D
pins: 1 ~{OEA} (in), 2 S1 (in), 3 A3 (in), 4 A2 (in), 5 A1 (in), 6 A0 (in), 7 ~{ZA} (hiz), 8 GND (power), 9 ~{ZB} (hiz), 10 B0 (in), 11 B1 (in), 12 B2 (in), 13 B3 (in), 14 S0 (in), 15 ~{OEB} (in), 16 VDD (power)

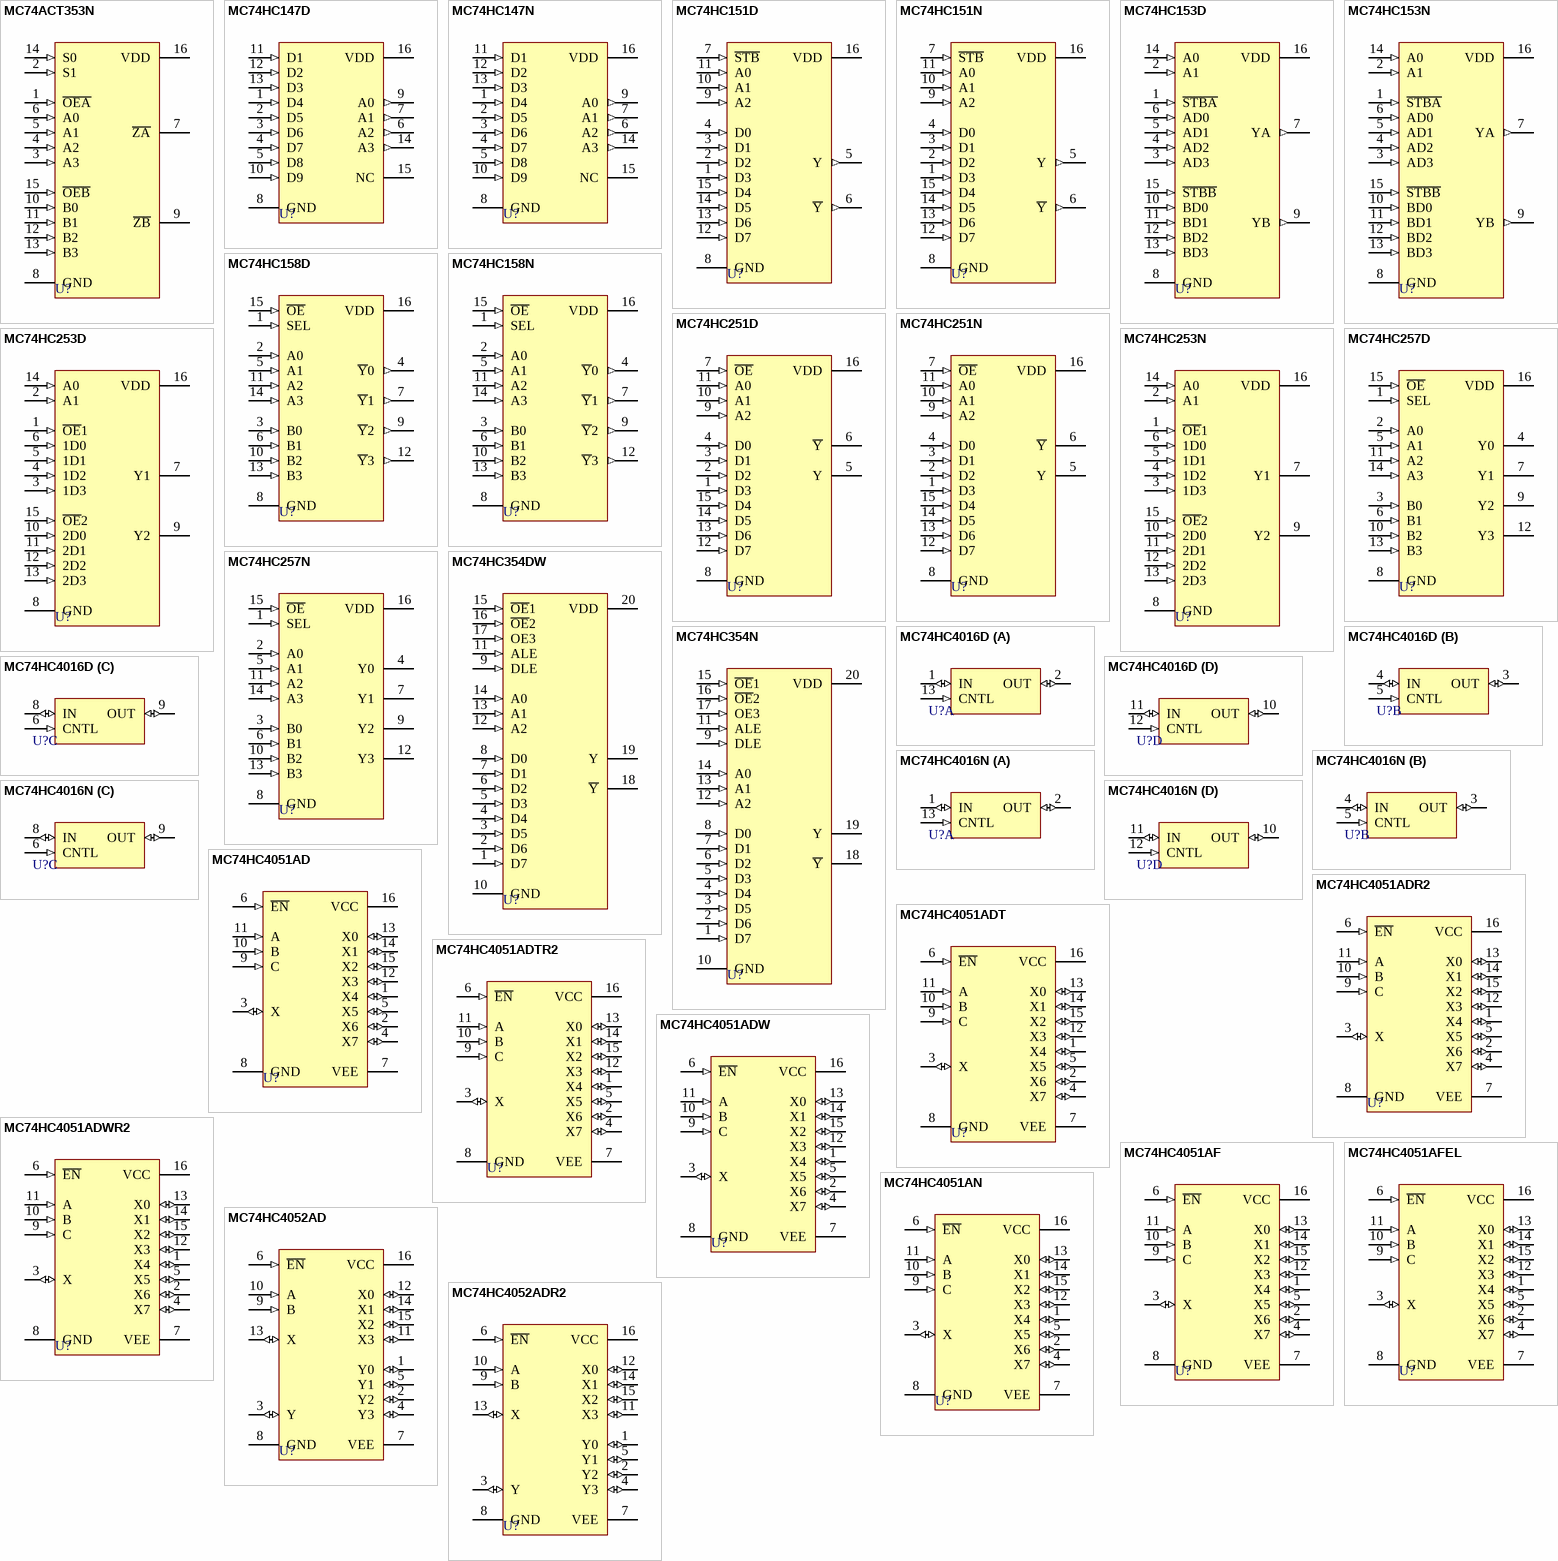
[diagram p1: symbols MC74ACT353N to MC74HC4052ADR2]

## MC74ACT353N
designator U?
Dual 4-Input Multiplexer with 3-State Outputs; Published: 17-Jul-2002; LatestRevisionDate: 06-Jun-2005; LatestRevisionNote: Stylized 3D Model Added; DatasheetVersion: 1990; PackageReference: 648-08; Publisher: Altium Limited; PackageDescription: DIP; 16 Leads; Row Spacing 7.62 mm; Pitch 2.54 mm; Code_JEDEC: MS-001-BB; ComponentLink1Description: Manufacturer Link; ComponentLink1URL: http://www.onsemi.com/site/products/parametrics/0,4446,419,00.html; ComponentLink2Description: Ibis Model; ComponentLink2URL: http://www.onsemi.com/pub/Collateral/MC74ACT353D.IBS
footprint 648-08 (DIP; 16 Leads; Row Spacing 7.62 mm; Pitch 2.54 mm)
3D model 620-09 (DIP; 16 Leads; Row Spacing 7.62 mm; Pitch 2.54 mm)
signal-integrity model MC74ACT353N
pins: 1 ~{OEA} (in), 2 S1 (in), 3 A3 (in), 4 A2 (in), 5 A1 (in), 6 A0 (in), 7 ~{ZA} (hiz), 8 GND (power), 9 ~{ZB} (hiz), 10 B0 (in), 11 B1 (in), 12 B2 (in), 13 B3 (in), 14 S0 (in), 15 ~{OEB} (in), 16 VDD (power)

## MC74HC147D
designator U?
Decimal-to-BCD Encoder; Published: 17-Jul-2002; LatestRevisionDate: 13-Apr-2006; LatestRevisionNote: IPC-7351 Footprint Added.; DatasheetVersion: 1989; PackageVersion: 1991; PackageReference: 751B-03; Publisher: Altium Limited; PackageDescription: 16-Pin Small Outline Integrated Circuit 1.27 mm Pitch; Code_JEDEC: MS-012-AC; Code_IPC: SOIC127P600-16; ComponentLink1Description: Manufacturer Link; ComponentLink1URL: http://www.onsemi.com/site/products/parametrics/0,4446,419,00.html; ComponentLink2Description: Ibis Model; ComponentLink2URL: http://www.onsemi.com/pub/Collateral/MC54HC147J.IBS
footprint 751B-03_N (SOIC, 16-Leads, Body 9.9x3.9mm, Pitch 1.27mm, IPC Medium Density)
footprint 751B-03_L (SOIC, 16-Leads, Body 9.9x3.9mm, Pitch 1.27mm, IPC High Density)
footprint 751B-03_M (SOIC, 16-Leads, Body 9.9x3.9mm, Pitch 1.27mm, IPC Low Density)
3D model 751B-05 (16-Pin Small Outline Integrated Circuit 1.27 mm Pitch)
signal-integrity model MC74HC147D
pins: 1 D4 (in), 2 D5 (in), 3 D6 (in), 4 D7 (in), 5 D8 (in), 6 A2 (out), 7 A1 (out), 8 GND (power), 9 A0 (out), 10 D9 (in), 11 D1 (in), 12 D2 (in), 13 D3 (in), 14 A3 (out), 15 NC, 16 VDD (power)

## MC74HC147N
designator U?
Decimal-to-BCD Encoder; Published: 17-Jul-2002; LatestRevisionDate: 06-Jun-2005; LatestRevisionNote: Stylized 3D Model Added; DatasheetVersion: 1989; PackageReference: 648-06; Publisher: Altium Limited; PackageDescription: DIP; 16 Leads; Row Spacing 7.62 mm; Pitch 2.54 mm; ComponentLink1Description: Manufacturer Link; ComponentLink1URL: http://www.onsemi.com/site/products/parametrics/0,4446,419,00.html; ComponentLink2Description: Ibis Model; ComponentLink2URL: http://www.onsemi.com/pub/Collateral/MC54HC147J.IBS
footprint 648-06 (DIP; 16 Leads; Row Spacing 7.62 mm; Pitch 2.54 mm)
3D model 648-06 (DIP; 16 Leads; Row Spacing 7.62 mm; Pitch 2.54 mm)
signal-integrity model MC74HC147N
pins: 1 D4 (in), 2 D5 (in), 3 D6 (in), 4 D7 (in), 5 D8 (in), 6 A2 (out), 7 A1 (out), 8 GND (power), 9 A0 (out), 10 D9 (in), 11 D1 (in), 12 D2 (in), 13 D3 (in), 14 A3 (out), 15 NC, 16 VDD (power)

## MC74HC151D
designator U?
8-Input Data Selector/Multiplexer; Published: 17-Jul-2002; LatestRevisionDate: 13-Apr-2006; LatestRevisionNote: IPC-7351 Footprint Added.; DatasheetVersion: 1989; PackageVersion: 1991; PackageReference: 751B-03; Publisher: Altium Limited; PackageDescription: 16-Pin Small Outline Integrated Circuit 1.27 mm Pitch; Code_JEDEC: MS-012-AC; Code_IPC: SOIC127P600-16; ComponentLink1Description: Manufacturer Link; ComponentLink1URL: http://www.onsemi.com/site/products/parametrics/0,4446,419,00.html; ComponentLink2Description: Ibis Model; ComponentLink2URL: http://www.onsemi.com/pub/Collateral/MC54HC151J.IBS
footprint 751B-03_N (SOIC, 16-Leads, Body 9.9x3.9mm, Pitch 1.27mm, IPC Medium Density)
footprint 751B-03_L (SOIC, 16-Leads, Body 9.9x3.9mm, Pitch 1.27mm, IPC High Density)
footprint 751B-03_M (SOIC, 16-Leads, Body 9.9x3.9mm, Pitch 1.27mm, IPC Low Density)
3D model 751B-05 (16-Pin Small Outline Integrated Circuit 1.27 mm Pitch)
signal-integrity model MC74HC151D
pins: 1 D3 (in), 2 D2 (in), 3 D1 (in), 4 D0 (in), 5 Y (out), 6 ~{Y} (out), 7 ~{STB} (in), 8 GND (power), 9 A2 (in), 10 A1 (in), 11 A0 (in), 12 D7 (in), 13 D6 (in), 14 D5 (in), 15 D4 (in), 16 VDD (power)

## MC74HC151N
designator U?
8-Input Data Selector/Multiplexer; Published: 17-Jul-2002; LatestRevisionDate: 06-Jun-2005; LatestRevisionNote: Stylized 3D Model Added; DatasheetVersion: 1989; PackageReference: 648-06; Publisher: Altium Limited; PackageDescription: DIP; 16 Leads; Row Spacing 7.62 mm; Pitch 2.54 mm; ComponentLink1Description: Manufacturer Link; ComponentLink1URL: http://www.onsemi.com/site/products/parametrics/0,4446,419,00.html; ComponentLink2Description: Ibis Model; ComponentLink2URL: http://www.onsemi.com/pub/Collateral/MC54HC151J.IBS
footprint 648-06 (DIP; 16 Leads; Row Spacing 7.62 mm; Pitch 2.54 mm)
3D model 648-06 (DIP; 16 Leads; Row Spacing 7.62 mm; Pitch 2.54 mm)
signal-integrity model MC74HC151N
pins: 1 D3 (in), 2 D2 (in), 3 D1 (in), 4 D0 (in), 5 Y (out), 6 ~{Y} (out), 7 ~{STB} (in), 8 GND (power), 9 A2 (in), 10 A1 (in), 11 A0 (in), 12 D7 (in), 13 D6 (in), 14 D5 (in), 15 D4 (in), 16 VDD (power)

## MC74HC153D
designator U?
Dual 4-Input Data Selector/Multiplexer; Published: 17-Jul-2002; LatestRevisionDate: 13-Apr-2006; LatestRevisionNote: IPC-7351 Footprint Added.; DatasheetVersion: 1989; PackageVersion: 1991; PackageReference: 751B-03; Publisher: Altium Limited; PackageDescription: 16-Pin Small Outline Integrated Circuit 1.27 mm Pitch; Code_JEDEC: MS-012-AC; Code_IPC: SOIC127P600-16; ComponentLink1Description: Manufacturer Link; ComponentLink1URL: http://www.onsemi.com/site/products/parametrics/0,4446,419,00.html; ComponentLink2Description: Ibis Model; ComponentLink2URL: http://www.onsemi.com/pub/Collateral/MC54HC153J.IBS
footprint 751B-03_N (SOIC, 16-Leads, Body 9.9x3.9mm, Pitch 1.27mm, IPC Medium Density)
footprint 751B-03_L (SOIC, 16-Leads, Body 9.9x3.9mm, Pitch 1.27mm, IPC High Density)
footprint 751B-03_M (SOIC, 16-Leads, Body 9.9x3.9mm, Pitch 1.27mm, IPC Low Density)
3D model 751B-05 (16-Pin Small Outline Integrated Circuit 1.27 mm Pitch)
signal-integrity model MC74HC153D
pins: 1 ~{STBA} (in), 2 A1 (in), 3 AD3 (in), 4 AD2 (in), 5 AD1 (in), 6 AD0 (in), 7 YA (out), 8 GND (power), 9 YB (out), 10 BD0 (in), 11 BD1 (in), 12 BD2 (in), 13 BD3 (in), 14 A0 (in), 15 ~{STBB} (in), 16 VDD (power)

## MC74HC153N
designator U?
Dual 4-Input Data Selector/Multiplexer; Published: 17-Jul-2002; LatestRevisionDate: 06-Jun-2005; LatestRevisionNote: Stylized 3D Model Added; DatasheetVersion: 1989; PackageReference: 648-06; Publisher: Altium Limited; PackageDescription: DIP; 16 Leads; Row Spacing 7.62 mm; Pitch 2.54 mm; ComponentLink1Description: Manufacturer Link; ComponentLink1URL: http://www.onsemi.com/site/products/parametrics/0,4446,419,00.html; ComponentLink2Description: Ibis Model; ComponentLink2URL: http://www.onsemi.com/pub/Collateral/MC54HC153J.IBS
footprint 648-06 (DIP; 16 Leads; Row Spacing 7.62 mm; Pitch 2.54 mm)
3D model 648-06 (DIP; 16 Leads; Row Spacing 7.62 mm; Pitch 2.54 mm)
signal-integrity model MC74HC153N
pins: 1 ~{STBA} (in), 2 A1 (in), 3 AD3 (in), 4 AD2 (in), 5 AD1 (in), 6 AD0 (in), 7 YA (out), 8 GND (power), 9 YB (out), 10 BD0 (in), 11 BD1 (in), 12 BD2 (in), 13 BD3 (in), 14 A0 (in), 15 ~{STBB} (in), 16 VDD (power)

## MC74HC158D
designator U?
Quad 2-Input Inverting Data Selector/Multiplexer; Published: 17-Jul-2002; LatestRevisionDate: 13-Apr-2006; LatestRevisionNote: IPC-7351 Footprint Added.; DatasheetVersion: 1989; PackageVersion: 1991; PackageReference: 751B-03; Publisher: Altium Limited; PackageDescription: 16-Pin Small Outline Integrated Circuit 1.27 mm Pitch; Code_JEDEC: MS-012-AC; Code_IPC: SOIC127P600-16; ComponentLink1Description: Manufacturer Link; ComponentLink1URL: http://www.onsemi.com/site/products/parametrics/0,4446,419,00.html; ComponentLink2Description: Ibis Model; ComponentLink2URL: http://www.onsemi.com/pub/Collateral/MC54HC158J.IBS
footprint 751B-03_N (SOIC, 16-Leads, Body 9.9x3.9mm, Pitch 1.27mm, IPC Medium Density)
footprint 751B-03_L (SOIC, 16-Leads, Body 9.9x3.9mm, Pitch 1.27mm, IPC High Density)
footprint 751B-03_M (SOIC, 16-Leads, Body 9.9x3.9mm, Pitch 1.27mm, IPC Low Density)
3D model 751B-05 (16-Pin Small Outline Integrated Circuit 1.27 mm Pitch)
signal-integrity model MC74HC158D
pins: 1 SEL (in), 2 A0 (in), 3 B0 (in), 4 ~{Y}0 (out), 5 A1 (in), 6 B1 (in), 7 ~{Y}1 (out), 8 GND (power), 9 ~{Y}2 (out), 10 B2 (in), 11 A2 (in), 12 ~{Y}3 (out), 13 B3 (in), 14 A3 (in), 15 ~{OE} (in), 16 VDD (power)

## MC74HC158N
designator U?
Quad 2-Input Inverting Data Selector/Multiplexer; Published: 17-Jul-2002; LatestRevisionDate: 06-Jun-2005; LatestRevisionNote: Stylized 3D Model Added; DatasheetVersion: 1989; PackageReference: 648-06; Publisher: Altium Limited; PackageDescription: DIP; 16 Leads; Row Spacing 7.62 mm; Pitch 2.54 mm; ComponentLink1Description: Manufacturer Link; ComponentLink1URL: http://www.onsemi.com/site/products/parametrics/0,4446,419,00.html; ComponentLink2Description: Ibis Model; ComponentLink2URL: http://www.onsemi.com/pub/Collateral/MC54HC158J.IBS
footprint 648-06 (DIP; 16 Leads; Row Spacing 7.62 mm; Pitch 2.54 mm)
3D model 648-06 (DIP; 16 Leads; Row Spacing 7.62 mm; Pitch 2.54 mm)
signal-integrity model MC74HC158N
pins: 1 SEL (in), 2 A0 (in), 3 B0 (in), 4 ~{Y}0 (out), 5 A1 (in), 6 B1 (in), 7 ~{Y}1 (out), 8 GND (power), 9 ~{Y}2 (out), 10 B2 (in), 11 A2 (in), 12 ~{Y}3 (out), 13 B3 (in), 14 A3 (in), 15 ~{OE} (in), 16 VDD (power)

## MC74HC251D
designator U?
8-Input Data Selector/Multiplexer with 3-State Outputs; Published: 17-Jul-2002; LatestRevisionDate: 13-Apr-2006; LatestRevisionNote: IPC-7351 Footprint Added.; DatasheetVersion: 1989; PackageVersion: 1991; PackageReference: 751B-03; Publisher: Altium Limited; PackageDescription: 16-Pin Small Outline Integrated Circuit 1.27 mm Pitch; Code_JEDEC: MS-012-AC; Code_IPC: SOIC127P600-16; ComponentLink1Description: Manufacturer Link; ComponentLink1URL: http://www.onsemi.com/site/products/parametrics/0,4446,419,00.html
footprint 751B-03_N (SOIC, 16-Leads, Body 9.9x3.9mm, Pitch 1.27mm, IPC Medium Density)
footprint 751B-03_L (SOIC, 16-Leads, Body 9.9x3.9mm, Pitch 1.27mm, IPC High Density)
footprint 751B-03_M (SOIC, 16-Leads, Body 9.9x3.9mm, Pitch 1.27mm, IPC Low Density)
3D model 751B-05 (16-Pin Small Outline Integrated Circuit 1.27 mm Pitch)
signal-integrity model MC74HC251D
pins: 1 D3 (in), 2 D2 (in), 3 D1 (in), 4 D0 (in), 5 Y (hiz), 6 ~{Y} (hiz), 7 ~{OE} (in), 8 GND (power), 9 A2 (in), 10 A1 (in), 11 A0 (in), 12 D7 (in), 13 D6 (in), 14 D5 (in), 15 D4 (in), 16 VDD (power)

## MC74HC251N
designator U?
8-Input Data Selector/Multiplexer with 3-State Outputs; Published: 17-Jul-2002; LatestRevisionDate: 06-Jun-2005; LatestRevisionNote: Stylized 3D Model Added; DatasheetVersion: 1989; PackageReference: 648-08; Publisher: Altium Limited; PackageDescription: DIP; 16 Leads; Row Spacing 7.62 mm; Pitch 2.54 mm; Code_JEDEC: MS-001-BB; ComponentLink1Description: Manufacturer Link; ComponentLink1URL: http://www.onsemi.com/site/products/parametrics/0,4446,419,00.html
footprint 648-08 (DIP; 16 Leads; Row Spacing 7.62 mm; Pitch 2.54 mm)
3D model 620-09 (DIP; 16 Leads; Row Spacing 7.62 mm; Pitch 2.54 mm)
signal-integrity model MC74HC251N
pins: 1 D3 (in), 2 D2 (in), 3 D1 (in), 4 D0 (in), 5 Y (hiz), 6 ~{Y} (hiz), 7 ~{OE} (in), 8 GND (power), 9 A2 (in), 10 A1 (in), 11 A0 (in), 12 D7 (in), 13 D6 (in), 14 D5 (in), 15 D4 (in), 16 VDD (power)

## MC74HC253D
designator U?
Dual 4-Input Data Selector/Multiplexer with 3-State Outputs; Published: 17-Jul-2002; LatestRevisionDate: 13-Apr-2006; LatestRevisionNote: IPC-7351 Footprint Added.; DatasheetVersion: 1989; PackageVersion: 1991; PackageReference: 751B-03; Publisher: Altium Limited; PackageDescription: 16-Pin Small Outline Integrated Circuit 1.27 mm Pitch; Code_JEDEC: MS-012-AC; Code_IPC: SOIC127P600-16; ComponentLink1Description: Manufacturer Link; ComponentLink1URL: http://www.onsemi.com/site/products/parametrics/0,4446,419,00.html; ComponentLink2Description: Ibis Model; ComponentLink2URL: http://www.onsemi.com/pub/Collateral/MC14519BCL.IBS
footprint 751B-03_N (SOIC, 16-Leads, Body 9.9x3.9mm, Pitch 1.27mm, IPC Medium Density)
footprint 751B-03_L (SOIC, 16-Leads, Body 9.9x3.9mm, Pitch 1.27mm, IPC High Density)
footprint 751B-03_M (SOIC, 16-Leads, Body 9.9x3.9mm, Pitch 1.27mm, IPC Low Density)
3D model 751B-05 (16-Pin Small Outline Integrated Circuit 1.27 mm Pitch)
signal-integrity model MC74HC253D
pins: 1 ~{OE}1 (in), 2 A1 (in), 3 1D3 (in), 4 1D2 (in), 5 1D1 (in), 6 1D0 (in), 7 Y1 (hiz), 8 GND (power), 9 Y2 (hiz), 10 2D0 (in), 11 2D1 (in), 12 2D2 (in), 13 2D3 (in), 14 A0 (in), 15 ~{OE}2 (in), 16 VDD (power)

## MC74HC253N
designator U?
Dual 4-Input Data Selector/Multiplexer with 3-State Outputs; Published: 17-Jul-2002; LatestRevisionDate: 06-Jun-2005; LatestRevisionNote: Stylized 3D Model Added; DatasheetVersion: 1989; PackageReference: 648-08; Publisher: Altium Limited; PackageDescription: DIP; 16 Leads; Row Spacing 7.62 mm; Pitch 2.54 mm; Code_JEDEC: MS-001-BB; ComponentLink1Description: Manufacturer Link; ComponentLink1URL: http://www.onsemi.com/site/products/parametrics/0,4446,419,00.html; ComponentLink2Description: Ibis Model; ComponentLink2URL: http://www.onsemi.com/pub/Collateral/MC14519BCL.IBS
footprint 648-08 (DIP; 16 Leads; Row Spacing 7.62 mm; Pitch 2.54 mm)
3D model 620-09 (DIP; 16 Leads; Row Spacing 7.62 mm; Pitch 2.54 mm)
signal-integrity model MC74HC253N
pins: 1 ~{OE}1 (in), 2 A1 (in), 3 1D3 (in), 4 1D2 (in), 5 1D1 (in), 6 1D0 (in), 7 Y1 (hiz), 8 GND (power), 9 Y2 (hiz), 10 2D0 (in), 11 2D1 (in), 12 2D2 (in), 13 2D3 (in), 14 A0 (in), 15 ~{OE}2 (in), 16 VDD (power)

## MC74HC257D
designator U?
Quad 2-Input Data Selector/Multiplexer with 3-State Outputs; Published: 17-Jul-2002; LatestRevisionDate: 13-Apr-2006; LatestRevisionNote: IPC-7351 Footprint Added.; DatasheetVersion: 1989; PackageVersion: 1991; PackageReference: 751B-03; Publisher: Altium Limited; PackageDescription: 16-Pin Small Outline Integrated Circuit 1.27 mm Pitch; Code_JEDEC: MS-012-AC; Code_IPC: SOIC127P600-16; ComponentLink1Description: Manufacturer Link; ComponentLink1URL: http://www.onsemi.com/site/products/parametrics/0,4446,419,00.html
footprint 751B-03_N (SOIC, 16-Leads, Body 9.9x3.9mm, Pitch 1.27mm, IPC Medium Density)
footprint 751B-03_L (SOIC, 16-Leads, Body 9.9x3.9mm, Pitch 1.27mm, IPC High Density)
footprint 751B-03_M (SOIC, 16-Leads, Body 9.9x3.9mm, Pitch 1.27mm, IPC Low Density)
3D model 751B-05 (16-Pin Small Outline Integrated Circuit 1.27 mm Pitch)
signal-integrity model MC74HC257D
pins: 1 SEL (in), 2 A0 (in), 3 B0 (in), 4 Y0 (hiz), 5 A1 (in), 6 B1 (in), 7 Y1 (hiz), 8 GND (power), 9 Y2 (hiz), 10 B2 (in), 11 A2 (in), 12 Y3 (hiz), 13 B3 (in), 14 A3 (in), 15 ~{OE} (in), 16 VDD (power)

## MC74HC257N
designator U?
Quad 2-Input Data Selector/Multiplexer with 3-State Outputs; Published: 17-Jul-2002; LatestRevisionDate: 06-Jun-2005; LatestRevisionNote: Stylized 3D Model Added; DatasheetVersion: 1989; PackageReference: 648-08; Publisher: Altium Limited; PackageDescription: DIP; 16 Leads; Row Spacing 7.62 mm; Pitch 2.54 mm; Code_JEDEC: MS-001-BB; ComponentLink1Description: Manufacturer Link; ComponentLink1URL: http://www.onsemi.com/site/products/parametrics/0,4446,419,00.html
footprint 648-08 (DIP; 16 Leads; Row Spacing 7.62 mm; Pitch 2.54 mm)
3D model 620-09 (DIP; 16 Leads; Row Spacing 7.62 mm; Pitch 2.54 mm)
signal-integrity model MC74HC257N
pins: 1 SEL (in), 2 A0 (in), 3 B0 (in), 4 Y0 (hiz), 5 A1 (in), 6 B1 (in), 7 Y1 (hiz), 8 GND (power), 9 Y2 (hiz), 10 B2 (in), 11 A2 (in), 12 Y3 (hiz), 13 B3 (in), 14 A3 (in), 15 ~{OE} (in), 16 VDD (power)

## MC74HC354DW
designator U?
8-Input Data Selector/Multiplexer with Data/Address Latches and 3-State Outputs; Published: 17-Jul-2002; LatestRevisionDate: 13-Apr-2006; LatestRevisionNote: IPC-7351 Footprint Added.; DatasheetVersion: 1989; PackageReference: 751D-03; Publisher: Altium Limited; PackageDescription: 20-Pin Small Outline Integrated Circuit 1.27 mm Pitch; ComponentLink1Description: Manufacturer Link; ComponentLink1URL: http://www.onsemi.com/site/products/parametrics/0,4446,419,00.html; ComponentLink2Description: Ibis Model; ComponentLink2URL: http://www.onsemi.com/pub/Collateral/MC54HC354J.IBS
footprint 751D-03_N (SOIC, 20-Leads, Body 12.8x7.5mm, Pitch 1.27mm, IPC Medium Density)
footprint 751D-03_L (SOIC, 20-Leads, Body 12.8x7.5mm, Pitch 1.27mm, IPC High Density)
footprint 751D-03_M (SOIC, 20-Leads, Body 12.8x7.5mm, Pitch 1.27mm, IPC Low Density)
3D model 751D-03 (20-Pin Small Outline Integrated Circuit 1.27 mm Pitch)
signal-integrity model MC74HC354DW
pins: 1 D7 (in), 2 D6 (in), 3 D5 (in), 4 D4 (in), 5 D3 (in), 6 D2 (in), 7 D1 (in), 8 D0 (in), 9 DLE (in), 10 GND (power), 11 ALE (in), 12 A2 (in), 13 A1 (in), 14 A0 (in), 15 ~{OE}1 (in), 16 ~{OE}2 (in), 17 OE3 (in), 18 ~{Y} (hiz), 19 Y (hiz), 20 VDD (power)